# EAGLE library part 18012115411L (library WPME-CDIS)
WPME-CDIS Capacitive Digital Isolator Standard Characteristics Industrial standard package and pin configuration Signal transmission in high-speed applications (data rate up to 150 Mbps) High level of immunity to system noise (CMTI ±150 kV/µs) UL 1577 approval Applications Communication bus isolation Motor Control Industrial SMPS Test and measurement systems Microcontroller and DSP application Industrial automation Programmable logic controller (PLC) interfaces Battery management systems Solar inverters <https://www.we-online.com/components/media/o758945v209%20multi-parts-WPM-CDIS-18014015401H.jpg> Details see: www.we-online.com/en/components/products/DIGITAL-ISOLATORS-WPME-CDIS <www.we-online.com/catalog/DIGITAL-ISOLATORS-WPME-CDIS/?utm_source=eagle_model&utm_medium=description_link&utm_campaign=eisos_eagle> Updated by Ella Wu 2023-10-18 2023 (C) Wurth Elektronik
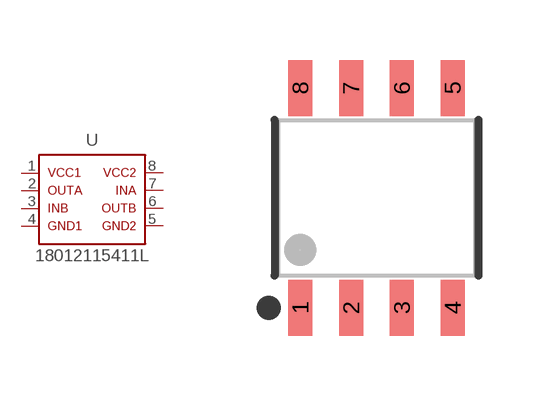
[diagram p3: symbol with the pads of WPME-CDIS_SOIC8NB; footprint WPME-CDIS_SOIC8NB]

Designator prefix U

## 18012115411L (CHANNEL-CONFIGURATION: 1/1; CMTI: 150 kV/us; DATASHEET-URL: https://www.we-online.com/redexpert/spec/18012115411L?ae; DR: 150 Mbps; HEIGHT: 1.8mm; LENGTH: 4.9mm; MOUNT: SMT; PART-NUMBER: 18012115411L; SIZE: SOIC 8NB; STANDARDAUSGABE: Low; TPLH-TPHL: 12 ns; VALUE: 18012115411L; VCC-MAX: 5.5 V; VCC-MIN: 2.375 V; VISO: 3750 V (RMS); WIDTH: 6mm)  [WPME-CDIS_SOIC8NB]
1  1  pas
2  2  pas
3  3  pas
4  4  pas
5  5  pas
6  6  pas
7  7  pas
8  8  pas

## Footprint WPME-CDIS_SOIC8NB (pad centres in mm)
WPME-CDIS Capacitive Digital Isolator Standard Size: SOIC 8NB, SMT, 8pins LXWXH = 4.9X3.9X1.4mm
smd 0.6 x 1.4: 1 -1.905,-2.75; 2 -0.635,-2.75; 3 0.635,-2.75; 4 1.905,-2.75; 5 1.905,2.75; 6 0.635,2.75; 7 -0.635,2.75; 8 -1.905,2.75